# Altium footprint library MergenElektronik_Diodes_TVSDiodes.PcbLib: 7 footprints
Each footprint in its own frame and in the unit in brackets; x right, y up, seen from the top. Pads: shape width x height; smd on the part's side, far side on the other; paste and mask are expansions set on the pad; w line width, h text height; cw(c..) or ccw(c..) is an arc to the next point about the centre after c.
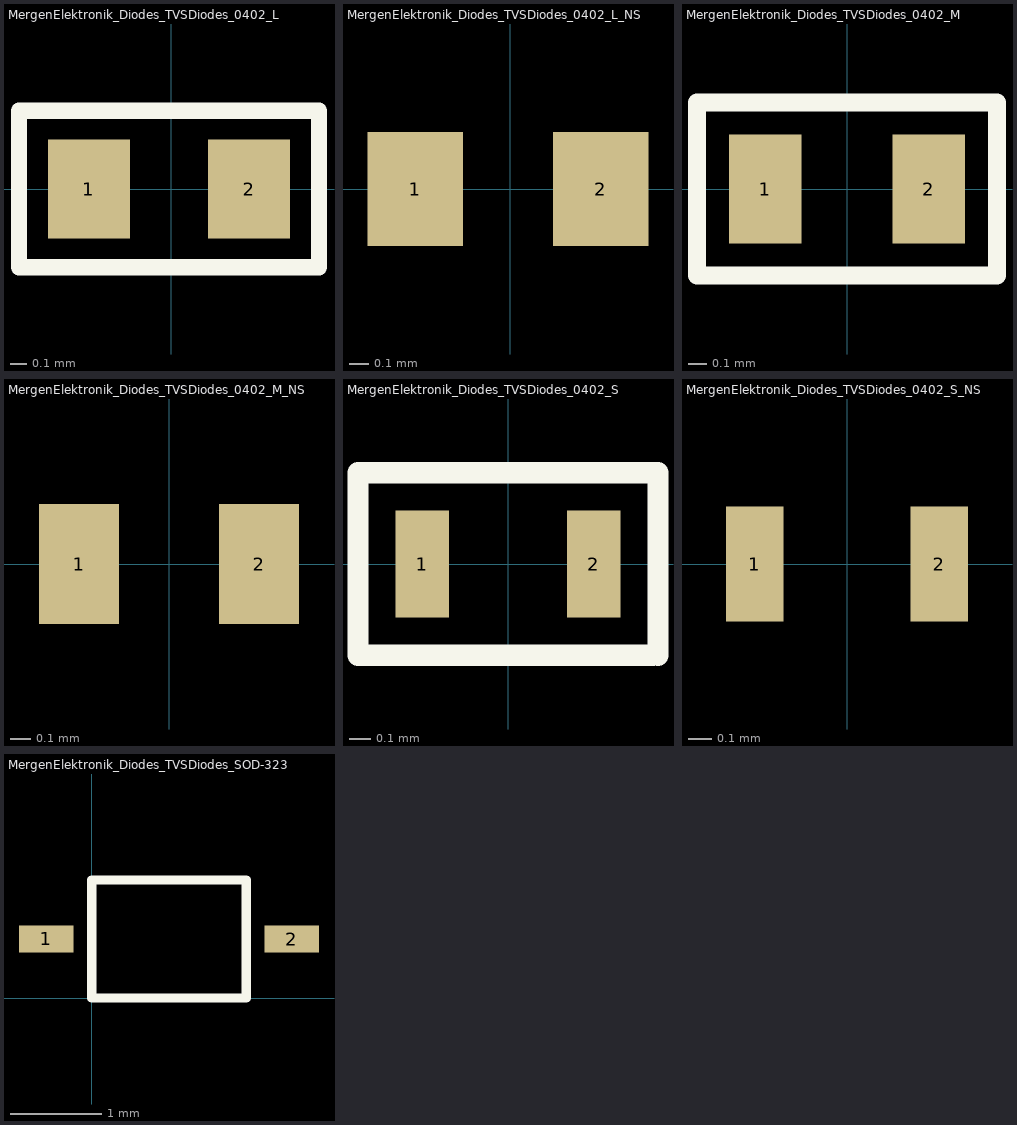
[diagram p0: the footprints below, top view; thin cyan lines are the x and y axes]

## MergenElektronik_Diodes_TVSDiodes_0402_L [mm] "0402 Large"
pads (2):
  rect 0.5x0.6 smd: 1(-0.5,0) 2(0.475,0)
Top Overlay:
  lines w0.1: -0.925,-0.475 0.9,-0.475 0.9,0.475 -0.925,0.475 -0.925,-0.475
3D body "MergenElektronik_Diodes_TVSDiodes_0402.step": height 0.54, standoff 0, extent -0.533,-0.337 0.533,0.337

## MergenElektronik_Diodes_TVSDiodes_0402_L_NS [mm] "0402 Large - No Silkscreen"
pads (2):
  rect 0.5x0.6 smd: 1(-0.5,0) 2(0.475,0)
3D body "MergenElektronik_Diodes_TVSDiodes_0402.step": height 0.54, standoff 0, extent -0.533,-0.337 0.533,0.337

## MergenElektronik_Diodes_TVSDiodes_0402_M [mm] "0402 Medium"
pads (2):
  rect 0.4x0.6 smd: 1(-0.45,0) 2(0.45,0)
Top Overlay:
  lines w0.1: -0.825,-0.475 0.825,-0.475 0.825,0.475 -0.825,0.475 -0.825,-0.475
3D body "MergenElektronik_Diodes_TVSDiodes_0402.step": height 0.54, standoff 0, extent -0.533,-0.337 0.533,0.337

## MergenElektronik_Diodes_TVSDiodes_0402_M_NS [mm] "0402 Medium - No Silkscreen"
pads (2):
  rect 0.4x0.6 smd: 1(-0.45,0) 2(0.45,0)
3D body "MergenElektronik_Diodes_TVSDiodes_0402.step": height 0.54, standoff 0, extent -0.533,-0.337 0.533,0.337

## MergenElektronik_Diodes_TVSDiodes_0402_S [mm] "0402 Small"
pads (2):
  rect 0.25x0.5 smd: 1(-0.4,0) 2(0.4,0)
Top Overlay:
  lines w0.1: 0.675,-0.425 -0.7,-0.425 -0.7,0.425 0.7,0.425 0.7,-0.425
3D body "MergenElektronik_Diodes_TVSDiodes_0402.step": height 0.54, standoff 0, extent -0.533,-0.337 0.533,0.337

## MergenElektronik_Diodes_TVSDiodes_0402_S_NS [mm] "0402 Small - No Silkscreen"
pads (2):
  rect 0.25x0.5 smd: 1(-0.4,0) 2(0.4,0)
3D body "MergenElektronik_Diodes_TVSDiodes_0402.step": height 0.54, standoff 0, extent -0.533,-0.337 0.533,0.337

## MergenElektronik_Diodes_TVSDiodes_SOD-323 [mm] "SOD-323"
pads (2):
  rect 0.6x0.3 smd: 1(-0.5,0.65) 2(2.2,0.65)
Top Overlay:
  lines w0.1: 0,0 0,1.3 1.7,1.3 1.7,0 0,0
3D body "D5V0L1B2WS-7.step": height 1.2, standoff 0, extent -0.4,0 2.1,1.3